# Altium schematic symbol library 喂鸟.SchLib: 12 symbols
Pins are listed as number, name and electrical type; pins without a type are passive.

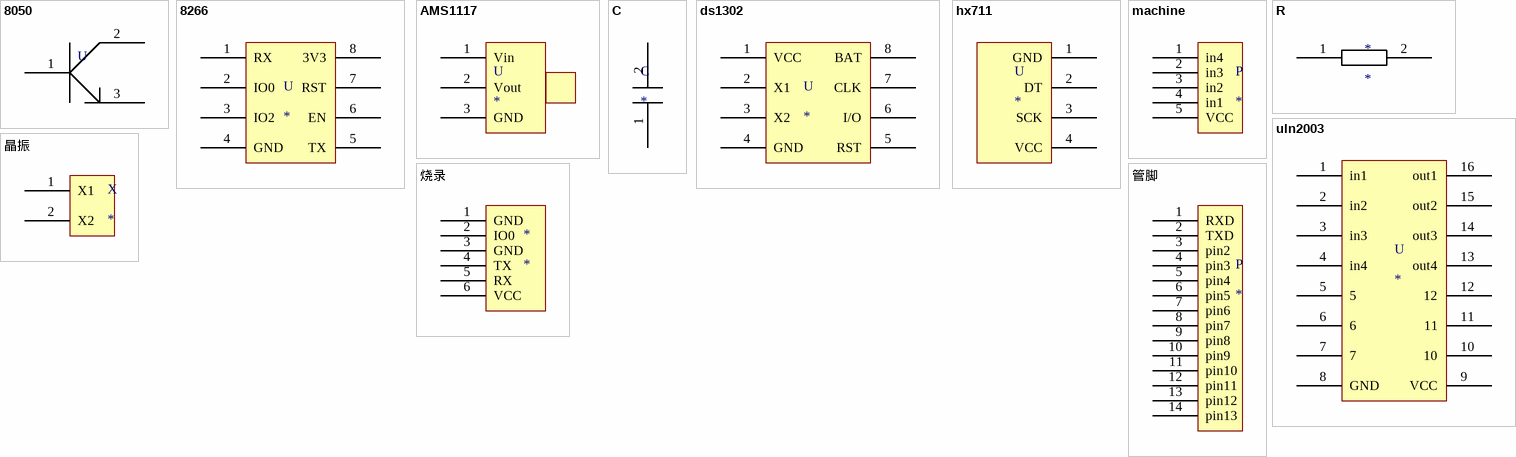
[diagram p0: symbols 8050 to 管脚]

## 8050
designator U  (value not drawn)
pins: 1 6, 2, 3

## 8266
designator U
pins: 1 RX, 2 IO0, 3 IO2, 4 GND, 5 TX, 6 EN, 7 RST, 8 3V3

## AMS1117
designator U
pins: 1 Vin, 2 Vout, 3 GND

## C
designator C
pins: 1 3, 2

## ds1302
designator U
pins: 1 VCC, 2 X1, 3 X2, 4 GND, 5 RST, 6 I/O, 7 CLK, 8 BAT

## hx711
designator U
pins: 1 GND, 2 DT, 3 SCK, 4 VCC

## machine
designator P
pins: 1 in4, 2 in3, 3 in2, 4 in1, 5 VCC

## R
designator *
pins: 1 4, 2 4

## uln2003
designator U
pins: 1 in1, 2 in2, 3 in3, 4 in4, 5, 6, 7, 8 GND, 9 VCC, 10, 11, 12, 13 out4, 14 out3, 15 out2, 16 out1

## 晶振
designator X
pins: 1 X1, 2 X2

## 烧录
designator *
pins: 1 GND, 2 IO0, 3 GND, 4 TX, 5 RX, 6 VCC

## 管脚
designator P
pins: 1 RXD, 2 TXD, 3 pin2, 4 pin3, 5 pin4, 6 pin5, 7 pin6, 8 pin7, 9 pin8, 10 pin9, 11 pin10, 12 pin11, 13 pin12, 14 pin13